# Altium footprint library XDCR_ACS772LCB-100U-PFF-T.PcbLib: 1 footprints
Each footprint in its own frame and in the unit in brackets; x right, y up, seen from the top. Pads: shape width x height; smd on the part's side, far side on the other; paste and mask are expansions set on the pad; w line width, h text height; cw(c..) or ccw(c..) is an arc to the next point about the centre after c.
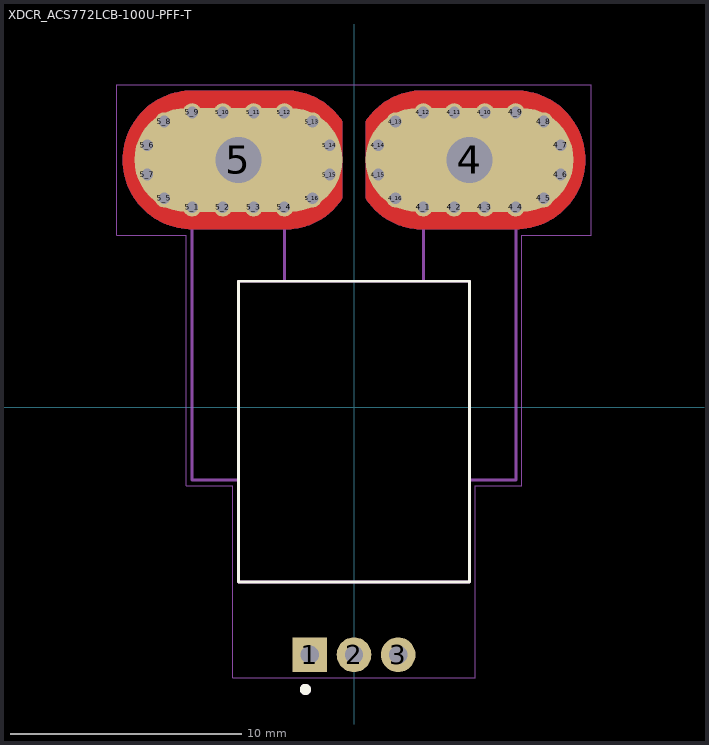
[diagram p0: the footprint, top view; thin cyan lines are the x and y axes]

## XDCR_ACS772LCB-100U-PFF-T [mm]
pads (37):
  rect 1.5x1.5 hole 0.8: 1(-1.91,-10.7)
  round 1.5 hole 0.8: 2(0,-10.7) 3(1.91,-10.7)
  oval 9x4.5 hole 2 mask+0: 4(5,10.7) 5(-5,10.7)
  round 0.8 hole 0.5: 4_1(3,8.65) 4_2(4.33,8.65) 4_3(5.66,8.65) 4_4(6.99,8.65) 4_5(8.205,9.042) 4_6(8.95,10.067) 4_7(8.95,11.333) 4_8(8.205,12.358) 4_9(6.99,12.75) 4_10(5.66,12.75) 4_11(4.33,12.75) 4_12(3,12.75) 4_13(1.795,12.358) 4_14(1.05,11.333) 4_15(1.05,10.067) 4_16(1.795,9.042) 5_1(-7,8.65) 5_2(-5.67,8.65) 5_3(-4.34,8.65) 5_4(-3.01,8.65) 5_5(-8.205,9.042) 5_6(-8.95,11.333) 5_7(-8.95,10.067) 5_8(-8.205,12.358) 5_9(-7,12.75) 5_10(-5.67,12.75) 5_11(-4.34,12.75) 5_12(-3.01,12.75) 5_13(-1.795,12.358) 5_14(-1.05,11.333) 5_15(-1.05,10.067) 5_16(-1.795,9.042)
Top Layer:
  region: 5,11.7 3,11.7 2.948,11.699 2.895,11.695 2.844,11.688 2.792,11.678 2.741,11.666 2.691,11.651 2.642,11.634 2.593,11.614 2.546,11.591 2.5,11.566 2.455,11.539 2.412,11.509 2.371,11.477 2.331,11.443 2.293,11.407 2.257,11.369 2.223,11.329 2.191,11.288 2.161,11.245 2.134,11.2 2.109,11.154 2.086,11.107 2.066,11.058 2.049,11.009 2.034,10.959 2.022,10.908 2.012,10.856 2.005,10.805 2.001,10.752 2,10.7 2.001,10.648 2.005,10.595 2.012,10.544 2.022,10.492 2.034,10.441 2.049,10.391 2.066,10.342 2.086,10.293 2.109,10.246 2.134,10.2 2.161,10.155 2.191,10.112 2.223,10.071 2.257,10.031 2.293,9.993 2.331,9.957 2.371,9.923 2.412,9.891 2.455,9.861 2.5,9.834 2.546,9.809 2.593,9.786 2.642,9.766 2.691,9.749 2.741,9.734 2.792,9.722 2.844,9.712 2.895,9.705 2.948,9.701 3,9.7 5,9.7 5,7.7 3,7.7 2.911,7.7 2.812,7.703 2.714,7.71 2.616,7.72 2.518,7.733 2.421,7.75 2.324,7.769 2.228,7.792 2.133,7.819 2.039,7.848 1.945,7.881 1.853,7.917 1.763,7.955 1.673,7.997 1.585,8.042 1.499,8.09 1.414,8.141 1.331,8.194 1.25,8.25 1.171,8.309 1.094,8.371 1.019,8.435 0.946,8.502 0.876,8.571 0.808,8.642 0.742,8.716 0.679,8.792 0.618,8.87 0.56,8.95 0.5,9.04 0.5,12.36 0.56,12.45 0.618,12.53 0.679,12.608 0.742,12.684 0.808,12.758 0.876,12.829 0.946,12.898 1.019,12.965 1.094,13.029 1.171,13.091 1.25,13.15 1.331,13.206 1.414,13.259 1.499,13.31 1.585,13.358 1.673,13.403 1.763,13.445 1.853,13.483 1.945,13.519 2.039,13.552 2.133,13.581 2.228,13.608 2.324,13.631 2.421,13.65 2.518,13.667 2.616,13.68 2.714,13.69 2.812,13.697 2.911,13.7 3,13.7 5,13.7
  region: 7.157,13.696 7.314,13.684 7.469,13.663 7.624,13.634 7.776,13.598 7.927,13.553 8.075,13.501 8.22,13.441 8.362,13.373 8.5,13.298 8.634,13.216 8.763,13.127 8.888,13.031 9.007,12.929 9.121,12.821 9.229,12.707 9.331,12.588 9.427,12.463 9.516,12.334 9.598,12.2 9.673,12.062 9.741,11.92 9.801,11.775 9.853,11.627 9.898,11.476 9.934,11.324 9.963,11.169 9.984,11.014 9.996,10.857 10,10.7 9.996,10.543 9.984,10.386 9.963,10.231 9.934,10.076 9.898,9.924 9.853,9.773 9.801,9.625 9.741,9.48 9.673,9.338 9.598,9.2 9.516,9.066 9.427,8.937 9.331,8.812 9.229,8.693 9.121,8.579 9.007,8.471 8.888,8.369 8.763,8.273 8.634,8.184 8.5,8.102 8.362,8.027 8.22,7.959 8.075,7.899 7.927,7.847 7.776,7.802 7.624,7.766 7.469,7.737 7.314,7.716 7.157,7.704 7,7.7 5,7.7 5,9.7 7,9.7 7.052,9.701 7.105,9.705 7.156,9.712 7.208,9.722 7.259,9.734 7.309,9.749 7.358,9.766 7.407,9.786 7.454,9.809 7.5,9.834 7.545,9.861 7.588,9.891 7.629,9.923 7.669,9.957 7.707,9.993 7.743,10.031 7.777,10.071 7.809,10.112 7.839,10.155 7.866,10.2 7.891,10.246 7.914,10.293 7.934,10.342 7.951,10.391 7.966,10.441 7.978,10.492 7.988,10.544 7.995,10.595 7.999,10.648 8,10.7 7.999,10.752 7.995,10.805 7.988,10.856 7.978,10.908 7.966,10.959 7.951,11.009 7.934,11.058 7.914,11.107 7.891,11.154 7.866,11.2 7.839,11.245 7.809,11.288 7.777,11.329 7.743,11.369 7.707,11.407 7.669,11.443 7.629,11.477 7.588,11.509 7.545,11.539 7.5,11.566 7.454,11.591 7.407,11.614 7.358,11.634 7.309,11.651 7.259,11.666 7.208,11.678 7.156,11.688 7.105,11.695 7.052,11.699 7,11.7 5,11.7 5,13.7 7,13.7
  region: -2.911,13.7 -2.812,13.697 -2.714,13.69 -2.616,13.68 -2.518,13.667 -2.421,13.65 -2.324,13.631 -2.228,13.608 -2.133,13.581 -2.039,13.552 -1.945,13.519 -1.853,13.483 -1.763,13.445 -1.673,13.403 -1.585,13.358 -1.499,13.31 -1.414,13.259 -1.331,13.206 -1.25,13.15 -1.171,13.091 -1.094,13.029 -1.019,12.965 -0.946,12.898 -0.876,12.829 -0.808,12.758 -0.742,12.684 -0.679,12.608 -0.618,12.53 -0.56,12.45 -0.5,12.36 -0.5,9.04 -0.56,8.95 -0.618,8.87 -0.679,8.792 -0.742,8.716 -0.808,8.642 -0.876,8.571 -0.946,8.502 -1.019,8.435 -1.094,8.371 -1.171,8.309 -1.25,8.25 -1.331,8.194 -1.414,8.141 -1.499,8.09 -1.585,8.042 -1.673,7.997 -1.763,7.955 -1.853,7.917 -1.945,7.881 -2.039,7.848 -2.133,7.819 -2.228,7.792 -2.324,7.769 -2.421,7.75 -2.518,7.733 -2.616,7.72 -2.714,7.71 -2.812,7.703 -2.911,7.7 -3,7.7 -5,7.7 -5,9.7 -3,9.7 -2.948,9.701 -2.895,9.705 -2.844,9.712 -2.792,9.722 -2.741,9.734 -2.691,9.749 -2.642,9.766 -2.593,9.786 -2.546,9.809 -2.5,9.834 -2.455,9.861 -2.412,9.891 -2.371,9.923 -2.331,9.957 -2.293,9.993 -2.257,10.031 -2.223,10.071 -2.191,10.112 -2.161,10.155 -2.134,10.2 -2.109,10.246 -2.086,10.293 -2.066,10.342 -2.049,10.391 -2.034,10.441 -2.022,10.492 -2.012,10.544 -2.005,10.595 -2.001,10.648 -2,10.7 -2.001,10.752 -2.005,10.805 -2.012,10.856 -2.022,10.908 -2.034,10.959 -2.049,11.009 -2.066,11.058 -2.086,11.107 -2.109,11.154 -2.134,11.2 -2.161,11.245 -2.191,11.288 -2.223,11.329 -2.257,11.369 -2.293,11.407 -2.331,11.443 -2.371,11.477 -2.412,11.509 -2.455,11.539 -2.5,11.566 -2.546,11.591 -2.593,11.614 -2.642,11.634 -2.691,11.651 -2.741,11.666 -2.792,11.678 -2.844,11.688 -2.895,11.695 -2.948,11.699 -3,11.7 -5,11.7 -5,13.7 -3,13.7
  region: -5,11.7 -7,11.7 -7.052,11.699 -7.105,11.695 -7.156,11.688 -7.208,11.678 -7.259,11.666 -7.309,11.651 -7.358,11.634 -7.407,11.614 -7.454,11.591 -7.5,11.566 -7.545,11.539 -7.588,11.509 -7.629,11.477 -7.669,11.443 -7.707,11.407 -7.743,11.369 -7.777,11.329 -7.809,11.288 -7.839,11.245 -7.866,11.2 -7.891,11.154 -7.914,11.107 -7.934,11.058 -7.951,11.009 -7.966,10.959 -7.978,10.908 -7.988,10.856 -7.995,10.805 -7.999,10.752 -8,10.7 -7.999,10.648 -7.995,10.595 -7.988,10.544 -7.978,10.492 -7.966,10.441 -7.951,10.391 -7.934,10.342 -7.914,10.293 -7.891,10.246 -7.866,10.2 -7.839,10.155 -7.809,10.112 -7.777,10.071 -7.743,10.031 -7.707,9.993 -7.669,9.957 -7.629,9.923 -7.588,9.891 -7.545,9.861 -7.5,9.834 -7.454,9.809 -7.407,9.786 -7.358,9.766 -7.309,9.749 -7.259,9.734 -7.208,9.722 -7.156,9.712 -7.105,9.705 -7.052,9.701 -7,9.7 -5,9.7 -5,7.7 -7,7.7 -7.157,7.704 -7.314,7.716 -7.469,7.737 -7.624,7.766 -7.776,7.802 -7.927,7.847 -8.075,7.899 -8.22,7.959 -8.362,8.027 -8.5,8.102 -8.634,8.184 -8.763,8.273 -8.888,8.369 -9.007,8.471 -9.121,8.579 -9.229,8.693 -9.331,8.812 -9.427,8.937 -9.516,9.066 -9.598,9.2 -9.673,9.338 -9.741,9.48 -9.801,9.625 -9.853,9.773 -9.898,9.924 -9.934,10.076 -9.963,10.231 -9.984,10.386 -9.996,10.543 -10,10.7 -9.996,10.857 -9.984,11.014 -9.963,11.169 -9.934,11.324 -9.898,11.476 -9.853,11.627 -9.801,11.775 -9.741,11.92 -9.673,12.062 -9.598,12.2 -9.516,12.334 -9.427,12.463 -9.331,12.588 -9.229,12.707 -9.121,12.821 -9.007,12.929 -8.888,13.031 -8.763,13.127 -8.634,13.216 -8.5,13.298 -8.362,13.373 -8.22,13.441 -8.075,13.501 -7.927,13.553 -7.776,13.598 -7.624,13.634 -7.469,13.663 -7.314,13.684 -7.157,13.696 -7,13.7 -5,13.7
Bottom Layer:
  region: 5,11.7 3,11.7 2.948,11.699 2.895,11.695 2.844,11.688 2.792,11.678 2.741,11.666 2.691,11.651 2.642,11.634 2.593,11.614 2.546,11.591 2.5,11.566 2.455,11.539 2.412,11.509 2.371,11.477 2.331,11.443 2.293,11.407 2.257,11.369 2.223,11.329 2.191,11.288 2.161,11.245 2.134,11.2 2.109,11.154 2.086,11.107 2.066,11.058 2.049,11.009 2.034,10.959 2.022,10.908 2.012,10.856 2.005,10.805 2.001,10.752 2,10.7 2.001,10.648 2.005,10.595 2.012,10.544 2.022,10.492 2.034,10.441 2.049,10.391 2.066,10.342 2.086,10.293 2.109,10.246 2.134,10.2 2.161,10.155 2.191,10.112 2.223,10.071 2.257,10.031 2.293,9.993 2.331,9.957 2.371,9.923 2.412,9.891 2.455,9.861 2.5,9.834 2.546,9.809 2.593,9.786 2.642,9.766 2.691,9.749 2.741,9.734 2.792,9.722 2.844,9.712 2.895,9.705 2.948,9.701 3,9.7 5,9.7 5,7.7 3,7.7 2.911,7.7 2.812,7.703 2.714,7.71 2.616,7.72 2.518,7.733 2.421,7.75 2.324,7.769 2.228,7.792 2.133,7.819 2.039,7.848 1.945,7.881 1.853,7.917 1.763,7.955 1.673,7.997 1.585,8.042 1.499,8.09 1.414,8.141 1.331,8.194 1.25,8.25 1.171,8.309 1.094,8.371 1.019,8.435 0.946,8.502 0.876,8.571 0.808,8.642 0.742,8.716 0.679,8.792 0.618,8.87 0.56,8.95 0.5,9.04 0.5,12.36 0.56,12.45 0.618,12.53 0.679,12.608 0.742,12.684 0.808,12.758 0.876,12.829 0.946,12.898 1.019,12.965 1.094,13.029 1.171,13.091 1.25,13.15 1.331,13.206 1.414,13.259 1.499,13.31 1.585,13.358 1.673,13.403 1.763,13.445 1.853,13.483 1.945,13.519 2.039,13.552 2.133,13.581 2.228,13.608 2.324,13.631 2.421,13.65 2.518,13.667 2.616,13.68 2.714,13.69 2.812,13.697 2.911,13.7 3,13.7 5,13.7
  region: 7.157,13.696 7.314,13.684 7.469,13.663 7.624,13.634 7.776,13.598 7.927,13.553 8.075,13.501 8.22,13.441 8.362,13.373 8.5,13.298 8.634,13.216 8.763,13.127 8.888,13.031 9.007,12.929 9.121,12.821 9.229,12.707 9.331,12.588 9.427,12.463 9.516,12.334 9.598,12.2 9.673,12.062 9.741,11.92 9.801,11.775 9.853,11.627 9.898,11.476 9.934,11.324 9.963,11.169 9.984,11.014 9.996,10.857 10,10.7 9.996,10.543 9.984,10.386 9.963,10.231 9.934,10.076 9.898,9.924 9.853,9.773 9.801,9.625 9.741,9.48 9.673,9.338 9.598,9.2 9.516,9.066 9.427,8.937 9.331,8.812 9.229,8.693 9.121,8.579 9.007,8.471 8.888,8.369 8.763,8.273 8.634,8.184 8.5,8.102 8.362,8.027 8.22,7.959 8.075,7.899 7.927,7.847 7.776,7.802 7.624,7.766 7.469,7.737 7.314,7.716 7.157,7.704 7,7.7 5,7.7 5,9.7 7,9.7 7.052,9.701 7.105,9.705 7.156,9.712 7.208,9.722 7.259,9.734 7.309,9.749 7.358,9.766 7.407,9.786 7.454,9.809 7.5,9.834 7.545,9.861 7.588,9.891 7.629,9.923 7.669,9.957 7.707,9.993 7.743,10.031 7.777,10.071 7.809,10.112 7.839,10.155 7.866,10.2 7.891,10.246 7.914,10.293 7.934,10.342 7.951,10.391 7.966,10.441 7.978,10.492 7.988,10.544 7.995,10.595 7.999,10.648 8,10.7 7.999,10.752 7.995,10.805 7.988,10.856 7.978,10.908 7.966,10.959 7.951,11.009 7.934,11.058 7.914,11.107 7.891,11.154 7.866,11.2 7.839,11.245 7.809,11.288 7.777,11.329 7.743,11.369 7.707,11.407 7.669,11.443 7.629,11.477 7.588,11.509 7.545,11.539 7.5,11.566 7.454,11.591 7.407,11.614 7.358,11.634 7.309,11.651 7.259,11.666 7.208,11.678 7.156,11.688 7.105,11.695 7.052,11.699 7,11.7 5,11.7 5,13.7 7,13.7
  region: -2.911,13.7 -2.812,13.697 -2.714,13.69 -2.616,13.68 -2.518,13.667 -2.421,13.65 -2.324,13.631 -2.228,13.608 -2.133,13.581 -2.039,13.552 -1.945,13.519 -1.853,13.483 -1.763,13.445 -1.673,13.403 -1.585,13.358 -1.499,13.31 -1.414,13.259 -1.331,13.206 -1.25,13.15 -1.171,13.091 -1.094,13.029 -1.019,12.965 -0.946,12.898 -0.876,12.829 -0.808,12.758 -0.742,12.684 -0.679,12.608 -0.618,12.53 -0.56,12.45 -0.5,12.36 -0.5,9.04 -0.56,8.95 -0.618,8.87 -0.679,8.792 -0.742,8.716 -0.808,8.642 -0.876,8.571 -0.946,8.502 -1.019,8.435 -1.094,8.371 -1.171,8.309 -1.25,8.25 -1.331,8.194 -1.414,8.141 -1.499,8.09 -1.585,8.042 -1.673,7.997 -1.763,7.955 -1.853,7.917 -1.945,7.881 -2.039,7.848 -2.133,7.819 -2.228,7.792 -2.324,7.769 -2.421,7.75 -2.518,7.733 -2.616,7.72 -2.714,7.71 -2.812,7.703 -2.911,7.7 -3,7.7 -5,7.7 -5,9.7 -3,9.7 -2.948,9.701 -2.895,9.705 -2.844,9.712 -2.792,9.722 -2.741,9.734 -2.691,9.749 -2.642,9.766 -2.593,9.786 -2.546,9.809 -2.5,9.834 -2.455,9.861 -2.412,9.891 -2.371,9.923 -2.331,9.957 -2.293,9.993 -2.257,10.031 -2.223,10.071 -2.191,10.112 -2.161,10.155 -2.134,10.2 -2.109,10.246 -2.086,10.293 -2.066,10.342 -2.049,10.391 -2.034,10.441 -2.022,10.492 -2.012,10.544 -2.005,10.595 -2.001,10.648 -2,10.7 -2.001,10.752 -2.005,10.805 -2.012,10.856 -2.022,10.908 -2.034,10.959 -2.049,11.009 -2.066,11.058 -2.086,11.107 -2.109,11.154 -2.134,11.2 -2.161,11.245 -2.191,11.288 -2.223,11.329 -2.257,11.369 -2.293,11.407 -2.331,11.443 -2.371,11.477 -2.412,11.509 -2.455,11.539 -2.5,11.566 -2.546,11.591 -2.593,11.614 -2.642,11.634 -2.691,11.651 -2.741,11.666 -2.792,11.678 -2.844,11.688 -2.895,11.695 -2.948,11.699 -3,11.7 -5,11.7 -5,13.7 -3,13.7
  region: -5,11.7 -7,11.7 -7.052,11.699 -7.105,11.695 -7.156,11.688 -7.208,11.678 -7.259,11.666 -7.309,11.651 -7.358,11.634 -7.407,11.614 -7.454,11.591 -7.5,11.566 -7.545,11.539 -7.588,11.509 -7.629,11.477 -7.669,11.443 -7.707,11.407 -7.743,11.369 -7.777,11.329 -7.809,11.288 -7.839,11.245 -7.866,11.2 -7.891,11.154 -7.914,11.107 -7.934,11.058 -7.951,11.009 -7.966,10.959 -7.978,10.908 -7.988,10.856 -7.995,10.805 -7.999,10.752 -8,10.7 -7.999,10.648 -7.995,10.595 -7.988,10.544 -7.978,10.492 -7.966,10.441 -7.951,10.391 -7.934,10.342 -7.914,10.293 -7.891,10.246 -7.866,10.2 -7.839,10.155 -7.809,10.112 -7.777,10.071 -7.743,10.031 -7.707,9.993 -7.669,9.957 -7.629,9.923 -7.588,9.891 -7.545,9.861 -7.5,9.834 -7.454,9.809 -7.407,9.786 -7.358,9.766 -7.309,9.749 -7.259,9.734 -7.208,9.722 -7.156,9.712 -7.105,9.705 -7.052,9.701 -7,9.7 -5,9.7 -5,7.7 -7,7.7 -7.157,7.704 -7.314,7.716 -7.469,7.737 -7.624,7.766 -7.776,7.802 -7.927,7.847 -8.075,7.899 -8.22,7.959 -8.362,8.027 -8.5,8.102 -8.634,8.184 -8.763,8.273 -8.888,8.369 -9.007,8.471 -9.121,8.579 -9.229,8.693 -9.331,8.812 -9.427,8.937 -9.516,9.066 -9.598,9.2 -9.673,9.338 -9.741,9.48 -9.801,9.625 -9.853,9.773 -9.898,9.924 -9.934,10.076 -9.963,10.231 -9.984,10.386 -9.996,10.543 -10,10.7 -9.996,10.857 -9.984,11.014 -9.963,11.169 -9.934,11.324 -9.898,11.476 -9.853,11.627 -9.801,11.775 -9.741,11.92 -9.673,12.062 -9.598,12.2 -9.516,12.334 -9.427,12.463 -9.331,12.588 -9.229,12.707 -9.121,12.821 -9.007,12.929 -8.888,13.031 -8.763,13.127 -8.634,13.216 -8.5,13.298 -8.362,13.373 -8.22,13.441 -8.075,13.501 -7.927,13.553 -7.776,13.598 -7.624,13.634 -7.469,13.663 -7.314,13.684 -7.157,13.696 -7,13.7 -5,13.7
Top Overlay:
  circle w0.24: c-2.1,-12.2 r0.12
  lines w0.127: -5,-7.55 -5,5.45 5,5.45 5,-7.55 -5,-7.55
Top Solder:
  drawing of 4 lines, arcs and shapes, not listed
Bottom Solder:
  drawing of 4 lines, arcs and shapes, not listed
Mechanical 1:
  lines w0: -5,11.7 -4.95,11.7 ; 5,11.7 5.05,11.7 ; -7,9.7 cw(c-7,10.7) -7,11.7 -3,11.7 cw(c-3,10.7) -3,9.7 -7,9.7 ; 3,9.7 cw(c3,10.7) 3,11.7 7,11.7 cw(c7,10.7) 7,9.7 3,9.7
Mechanical 13:
  circle w0.24: c-2.1,-12.2 r0.12
  lines w0.127: -3,5.5 -3,10.7 -7,10.7 -7,-3.15 -5,-3.15 ; 3,5.5 3,10.7 7,10.7 7,-3.15 5,-3.15 ; -5,-3.15 -5,5.45 5,5.45 5,-7.55 -5,-7.55 -5,-3.15
Mechanical 15:
  lines w0.05: -10.25,7.45 -10.25,13.95 10.25,13.95 10.25,7.45 7.25,7.45 7.25,-3.4 5.25,-3.4 5.25,-11.7 -5.25,-11.7 -5.25,-3.4 -7.25,-3.4 -7.25,7.45 -10.25,7.45